# Altium integrated library SHUNT_WIRE_10X1MM.IntLib: 1 symbol
Pins are listed as number, name and electrical type; pins without a type are passive.

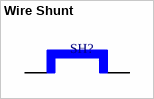
[diagram p0: symbol Wire Shunt]

## Wire Shunt
designator SH?, comment 20m  (value not drawn)
Constantan resistance sampling resistor 20mR. 1 mm dia, 10 mm leg
footprint WIRE-SHUNT (Constantan resistance sampling resistor 20mOhm)
pins: 1, 2